# Altium footprint library Cmosis.PcbLib: 2 footprints
Each footprint in its own frame and in the unit in brackets; x right, y up, seen from the top. Pads: shape width x height; smd on the part's side, far side on the other; paste and mask are expansions set on the pad; w line width, h text height; cw(c..) or ccw(c..) is an arc to the next point about the centre after c.
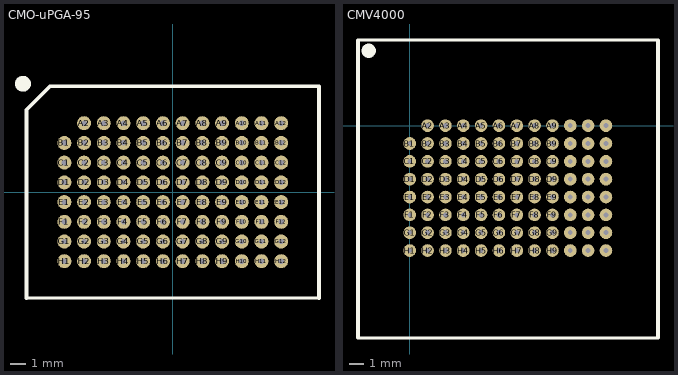
[diagram p0: the footprints below, top view; thin cyan lines are the x and y axes]

## CMO-uPGA-95 [mm]
pads (95):
  round 0.9 hole 0.35: A2(-5.715,4.445) A3(-4.445,4.445) A4(-3.175,4.445) A5(-1.905,4.445) A6(-0.635,4.445) A7(0.635,4.445) A8(1.905,4.445) A9(3.175,4.445) A10(4.445,4.445) A11(5.715,4.445) A12(6.985,4.445) B1(-6.985,3.175) B2(-5.715,3.175) B3(-4.445,3.175) B4(-3.175,3.175) B5(-1.905,3.175) B6(-0.635,3.175) B7(0.635,3.175) B8(1.905,3.175) B9(3.175,3.175) B10(4.445,3.175) B11(5.715,3.175) B12(6.985,3.175) C1(-6.985,1.905) C2(-5.715,1.905) C3(-4.445,1.905) C4(-3.175,1.905) C5(-1.905,1.905) C6(-0.635,1.905) C7(0.635,1.905) C8(1.905,1.905) C9(3.175,1.905) C10(4.445,1.905) C11(5.715,1.905) C12(6.985,1.905) D1(-6.985,0.635) D2(-5.715,0.635) D3(-4.445,0.635) D4(-3.175,0.635) D5(-1.905,0.635) D6(-0.635,0.635) D7(0.635,0.635) D8(1.905,0.635) D9(3.175,0.635) D10(4.445,0.635) D11(5.715,0.635) D12(6.985,0.635) E1(-6.985,-0.635) E2(-5.715,-0.635) E3(-4.445,-0.635) E4(-3.175,-0.635) E5(-1.905,-0.635) E6(-0.635,-0.635) E7(0.635,-0.635) E8(1.905,-0.635) E9(3.175,-0.635) E10(4.445,-0.635) E11(5.715,-0.635) E12(6.985,-0.635) F1(-6.985,-1.905) F2(-5.715,-1.905) F3(-4.445,-1.905) F4(-3.175,-1.905) F5(-1.905,-1.905) F6(-0.635,-1.905) F7(0.635,-1.905) F8(1.905,-1.905) F9(3.175,-1.905) F10(4.445,-1.905) F11(5.715,-1.905) F12(6.985,-1.905) G1(-6.985,-3.175) G2(-5.715,-3.175) G3(-4.445,-3.175) G4(-3.175,-3.175) G5(-1.905,-3.175) G6(-0.635,-3.175) G7(0.635,-3.175) G8(1.905,-3.175) G9(3.175,-3.175) G10(4.445,-3.175) G11(5.715,-3.175) G12(6.985,-3.175) H1(-6.985,-4.445) H2(-5.715,-4.445) H3(-4.445,-4.445) H4(-3.175,-4.445) H5(-1.905,-4.445) H6(-0.635,-4.445) H7(0.635,-4.445) H8(1.905,-4.445) H9(3.175,-4.445) H10(4.445,-4.445) H11(5.715,-4.445) H12(6.985,-4.445)
Top Overlay:
  circle w0.508: c-9.652,6.985 r0.254
  lines w0.2: -9.42,-6.825 9.42,-6.825 ; -7.907,6.825 9.42,6.825
  lines w0.254: -9.42,-6.825 -9.42,5.312 -7.907,6.825 ; 9.42,-6.825 9.42,6.825

## CMV4000 [mm]
pads (95):
  round 0.9 hole 0.35: A2(1.27,0) A3(2.54,0) A4(3.81,0) A5(5.08,0) A6(6.35,0) A7(7.62,0) A8(8.89,0) A9(10.16,0) A10(11.43,0) A11(12.7,0) A12(13.97,0) B1(0,-1.27) B2(1.27,-1.27) B3(2.54,-1.27) B4(3.81,-1.27) B5(5.08,-1.27) B6(6.35,-1.27) B7(7.62,-1.27) B8(8.89,-1.27) B9(10.16,-1.27) B10(11.43,-1.27) B11(12.7,-1.27) B12(13.97,-1.27) C1(0,-2.54) C2(1.27,-2.54) C3(2.54,-2.54) C4(3.81,-2.54) C5(5.08,-2.54) C6(6.35,-2.54) C7(7.62,-2.54) C8(8.89,-2.54) C9(10.16,-2.54) C10(11.43,-2.54) C11(12.7,-2.54) C12(13.97,-2.54) D1(0,-3.81) D2(1.27,-3.81) D3(2.54,-3.81) D4(3.81,-3.81) D5(5.08,-3.81) D6(6.35,-3.81) D7(7.62,-3.81) D8(8.89,-3.81) D9(10.16,-3.81) D10(11.43,-3.81) D11(12.7,-3.81) D12(13.97,-3.81) E1(0,-5.08) E2(1.27,-5.08) E3(2.54,-5.08) E4(3.81,-5.08) E5(5.08,-5.08) E6(6.35,-5.08) E7(7.62,-5.08) E8(8.89,-5.08) E9(10.16,-5.08) E10(11.43,-5.08) E11(12.7,-5.08) E12(13.97,-5.08) F1(0,-6.35) F2(1.27,-6.35) F3(2.54,-6.35) F4(3.81,-6.35) F5(5.08,-6.35) F6(6.35,-6.35) F7(7.62,-6.35) F8(8.89,-6.35) F9(10.16,-6.35) F10(11.43,-6.35) F11(12.7,-6.35) F12(13.97,-6.35) G1(0,-7.62) G2(1.27,-7.62) G3(2.54,-7.62) G4(3.81,-7.62) G5(5.08,-7.62) G6(6.35,-7.62) G7(7.62,-7.62) G8(8.89,-7.62) G9(10.16,-7.62) G10(11.43,-7.62) G11(12.7,-7.62) G12(13.97,-7.62) H1(0,-8.89) H2(1.27,-8.89) H3(2.54,-8.89) H4(3.81,-8.89) H5(5.08,-8.89) H6(6.35,-8.89) H7(7.62,-8.89) H8(8.89,-8.89) H9(10.16,-8.89) H10(11.43,-8.89) H11(12.7,-8.89) H12(13.97,-8.89)
Top Overlay:
  circle w0.508: c-2.921,5.334 r0.254
  lines w0.2: -3.683,-15.113 17.653,-15.113 ; -3.683,6.096 17.653,6.096
  lines w0.254: -3.683,-15.113 -3.683,6.096 ; 17.675,-15.113 17.675,-9.275 17.675,0.05 17.675,6.096